# Altium schematic symbol library TI Power Management DC-DC Controller (External Switch).SchLib: 349 symbols (part 20 of 26)
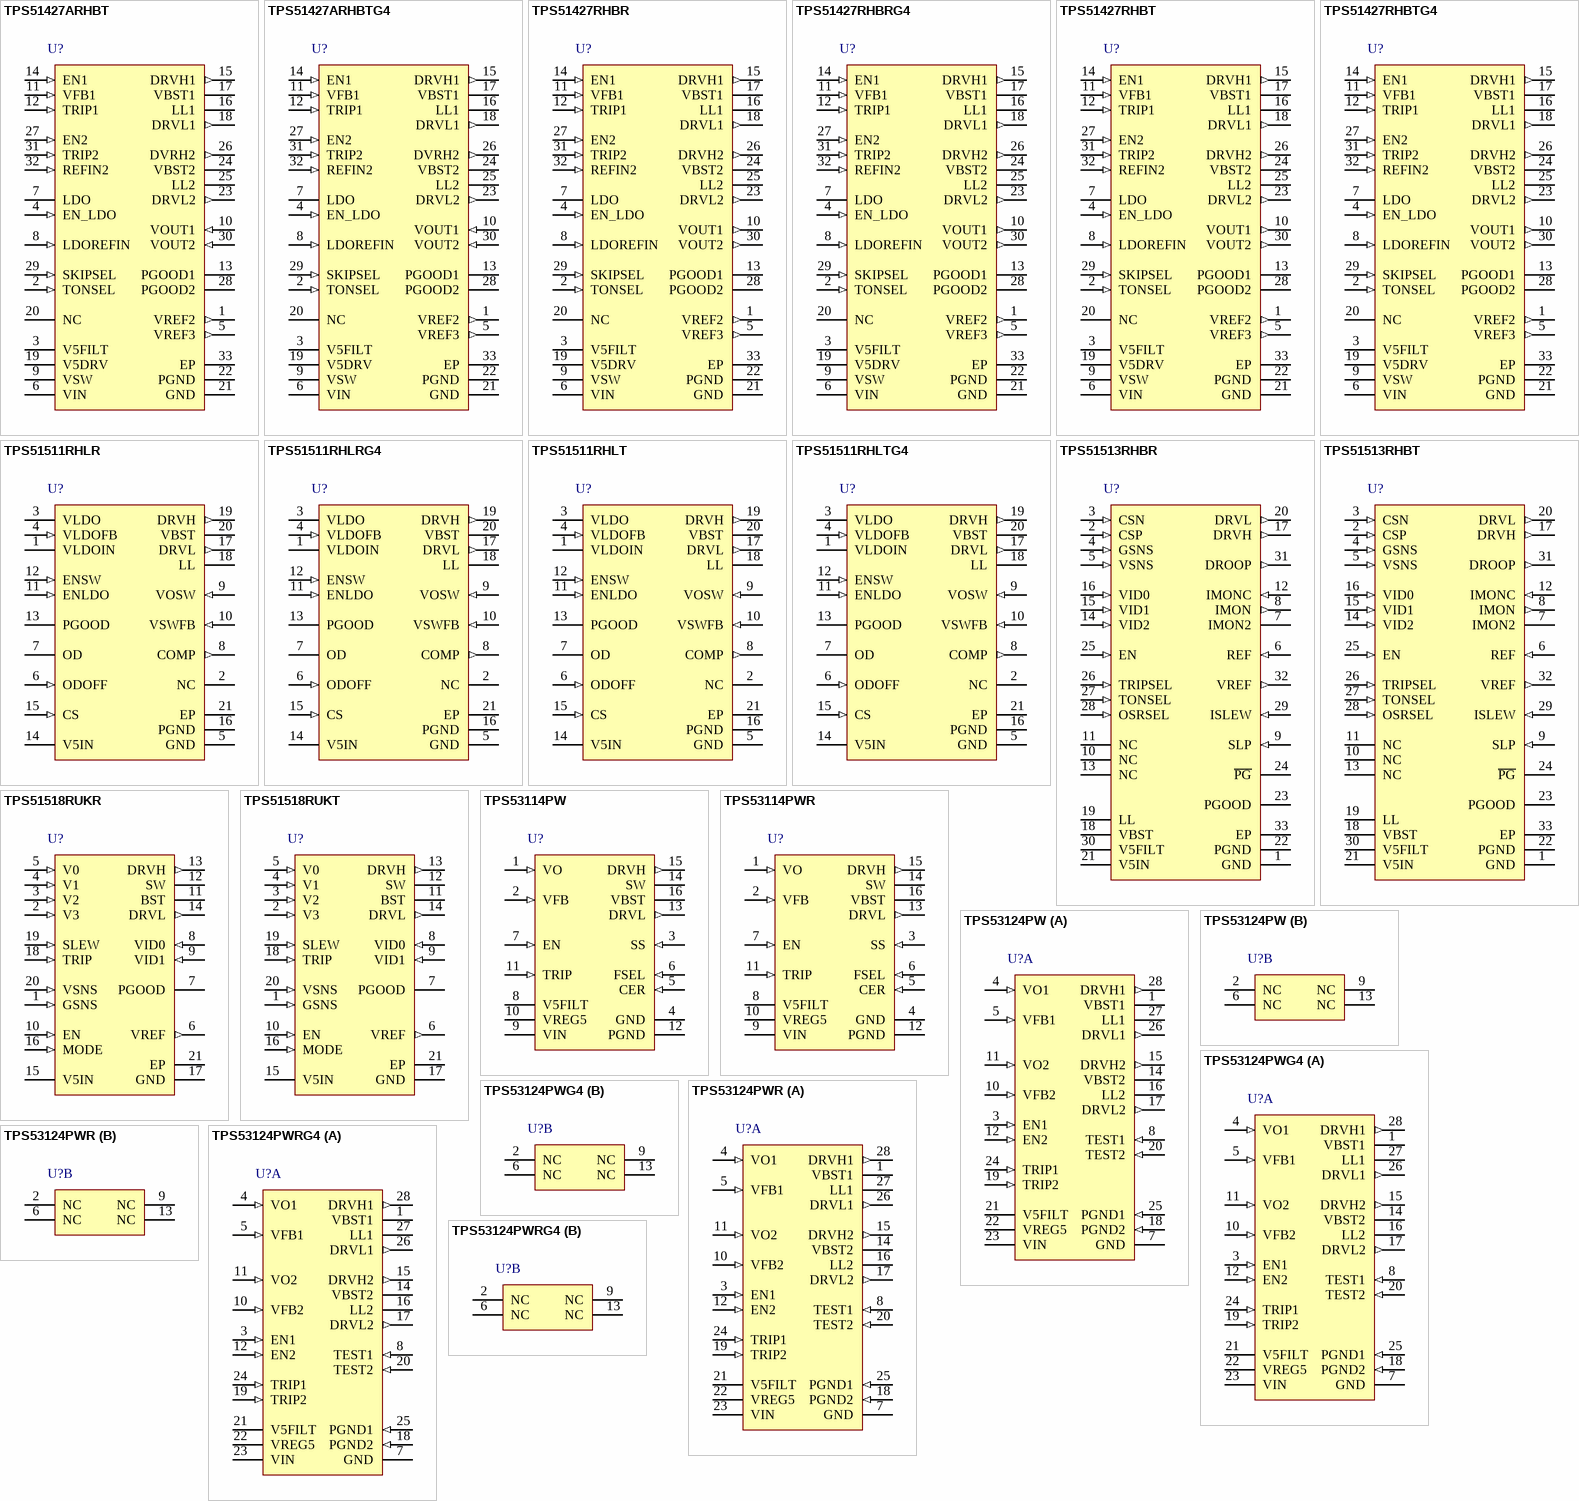
[diagram p33: symbols TPS51427ARHBT to TPS53124PWRG4]

## TPS51427ARHBT
designator U?
Dual D-CAP™Mode Synchronous Step Down Controller for Notebook Power with OOB Function Disabled, 90 % Duty Cycle, 5.5 to 28 V, -40 to 85 degC, 32-pin QFN (RHB), Green (RoHS & no Sb/Br); Manufacturer: Texas Instruments; PartNumber: TPS51427ARHBT; Duty Cycle(Max)(%): 90; Iout(Max)(A): 20; Regulated Outputs(#): 2; SubFamily: Multiple-Output Switching Controller; Switching Frequency(Max)(kHz): 500; Synchronous Rectification: TRUE; Topology: Buck, D-CAP Mode"; Vin(Max)(V): 28; Vin(Min)(V): 5.5; Vout(Max)(V): 5.9; Vout(Min)(V): 0.7; Vout2(Max)(V): 2.5; Vout2(Min)(V): 0.5; DatasheetVersion: SLUS843B; PackageVersion: revD, Jun-2011; PackageReference: RHB32-3450X3450TP; PackageDescription: 32-Pin Plastic Quad Flat No-Lead, 5 x 5 mm Body, 0.5 mm Pitch, 3.45 x 3.45 mm Exposed Pad; Supplier 1: Digi-Key; Supplier Part Number 1: 296-23590-2-ND; Eco-Plan: Green (RoHS & no Sb/Br); Iout2(A): 20; Mounting Technology: Surface Mount; Code_JEDEC: MO-220; ComponentLink1Description: Datasheet; ComponentLink1URL: http://www.ti.com/general/docs/lit/getliterature.tsp?genericPartNumber=TPS51427A&fileType=pdf; ComponentLink2Description: Package Specification; ComponentLink2URL: http://www.ti.com/litv/pdf/mpqf130c
footprint RHB32-3450X3450TP (QFN, 32-Leads, Body 5x5mm, Pitch 0.5mm, Thermal Pad 3.45x3.45mm, TI Recommended)
pins: 1 VREF2 (out) "2-V reference output. Bypass to GND with a 0.1-mF capacitor. VREF2 can source up to 50 mA for external loads.", 2 TONSEL (in) "Frequency select input. Connect to GND for 400-kHz/500-kHz operation. Connect to VREF2 (or leave open) for 400-kHz/300-kHz operation. Connect to V5FILT for 200-kHz/300-kHz operation (5-V/3.3-V SMPS switching frequencies, (See Datasheet)", 3 V5FILT (power) "5-V analog supply input", 4 EN_LDO (in) "LDO Enable Input. The LDO is enabled if EN_LDO is within logic high level and disabled if EN_LDO is less than the logic low level.", 5 VREF3 (out) "3.3-V reference output. VREF3 can source up to 10 mA for external loads. Bypass to GND with a 1-mF capacitor.", 6 VIN (power) "Power supply input .VIN supplies power to the linear regulators. The linear regulators are powered by Channel1 if VOUT1 is set greater than 5 V and VSW is tied to VOUT1.", 7 LDO (power) "Linear regulator output. The LDO regulator can provide a total of 100-mA external loads. The LDO regulates at 5 V If LDOREFIN is connected to GND. When the LDO is set at 5 V and VSW is within a 5-V switchover threshold, the (See Datasheet)", 8 LDOREFIN (in) "LDO Reference Input. Connect LDOREFIN to GND for fixed 5-V operation. Connect LDOREFIN to V5FILT for fixed 3.3-V operation. LDOREFIN can be used to program LDO output voltage from 0.7 V to 4.5 V. LDO output is twice the (See Datasheet)", 9 VSW (power) "VSW is the switchover source voltage for the LDO when LDOREFIN is connected to GND or V5FILT. Connect VSW to 5 V if LDOREFIN is tied GND.Connect VSW to 3.3 V if LDOREFIN is tied to V5FILT.", 10 VOUT1 (in) "Output connections to SMPS. These terminals serve two functions: on-time adjustment and output discharge.", 11 VFB1 (in) "Channel 1 feedback input.Connect VFB1 to GND for fixed 5-V operation.Connect VFB1 to V5FILT for fixed 1.5-V operation.Connect VFB1 to a resistive voltage divider from OUT1 to GND to adjust the output from 0.7 V to 5.9 V.", 12 TRIP1 (in) "Overcurrent trip point set input. Sourcing current is 5 mA at RT with 2900 ppm/degreesC temperature coefficient.", 13 PGOOD1 (hiz) "Channel1/Channel2 power-good open-drain output. PGOOD1/PGOOD2 is low when the Channel1/Channel2 output voltage is 10% less than the normal regulation point, at onset of OVP events, or during soft start. PGOOD1/PGOOD2 is high (See Datasheet)", 14 EN1 (in) "Channel enable pins. If EN1 is connected to VREF2, Channel1 starts after Channel2 reaches regulation (delay start). If EN2 is connected to VREF2, Channel2 starts after Chanel1 reaches regulation.", 15 DRVH1 (out) "High-side N-Channel FET driver ouputs.LL referenced floating drivers. The gate drive voltage is defined by the voltage across VBST to LLnode bootstrap capacitor.", 16 LL1 (power) "Phase node connections for high-side drivers. These connections also serve as inputs to current comparators for RDS(on) sensing and input voltage monitor for on-time control circuitry.", 17 VBST1 (power) "Supply input for high-side MOSFET driver (bootstrap terminal). Connect a capacitor from this pin to the respective LL terminals.", 18 DRVL1 (out) "Synchronous low-side MOSFET driver outputs. Ground referenced drivers. The gate drive voltage is defined by V5DRV voltage.", 19 V5DRV (power) "Supply voltage for the low-side MOSFET driver DRVL1/DRVL2. Connect a 5-V power source to the V5DRV pin (bypass with 4.7-uF MLCC capacitor to PGND if necessary.", 20 NC "No connection.", 21 GND (power) "Analog ground for both channels and LDO.", 22 PGND (power) "Ground pin for drivers and LS synchronous FET source terminals. This pin is also the input to zero crossing comparator and overcurrent comparator.", 23 DRVL2 (out) "Synchronous low-side MOSFET driver outputs. Ground referenced drivers. The gate drive voltage is defined by V5DRV voltage.", 24 VBST2 (power) "Supply input for high-side MOSFET driver (bootstrap terminal). Connect a capacitor from this pin to the respective LL terminals.", 25 LL2 (power) "Phase node connections for high-side drivers. These connections also serve as inputs to current comparators for RDS(on) sensing and input voltage monitor for on-time control circuitry.", 26 DVRH2 (out) "High-side N-Channel FET driver ouputs.LL referenced floating drivers. The gate drive voltage is defined by the voltage across VBST to LLnode bootstrap capacitor.", 27 EN2 (in) "Channel enable pins. If EN1 is connected to VREF2, Channel1 starts after Channel2 reaches regulation (delay start). If EN2 is connected to VREF2, Channel2 starts after Chanel1 reaches regulation.", 28 PGOOD2 (hiz) "Channel1/Channel2 power-good open-drain output. PGOOD1/PGOOD2 is low when the Channel1/Channel2 output voltage is 10% less than the normal regulation point, at onset of OVP events, or during soft start. PGOOD1/PGOOD2 is high (See Datasheet)", 29 SKIPSEL (in) "Low-noise mode control.Connect SKIPSEL to GND for Auto Skip mode operation or to V5FILT for PWM mode (fixed frequency).Connect to VREF2 or leave floating for OOA mode operation.", 30 VOUT2 (in) "Output connections to SMPS. These terminals serve two functions: on-time adjustment and output discharge.", 31 TRIP2 (in) "Overcurrent trip point set input. Sourcing current is 5 mA at RT with 2900 ppm/degreesC temperature coefficient.", 32 REFIN2 (in) "Output voltage control for Channel2.Connect REFIN2 to V5FILT for fixed 3.3-V operation.Connect REFIN2 to VREF3 for fixed 1.05-V operation.REFIN2 can be used to program Channel2 output voltage from 0.5 V to 2.5 V.", 33 EP (power) "Exposed thermal pad."

## TPS51427ARHBTG4
designator U?
Dual D-CAP™Mode Synchronous Step Down Controller for Notebook Power with OOB Function Disabled, 90 % Duty Cycle, 5.5 to 28 V, -40 to 85 degC, 32-pin QFN (RHB), Green (RoHS & no Sb/Br); Manufacturer: Texas Instruments; PartNumber: TPS51427ARHBTG4; Duty Cycle(Max)(%): 90; Iout(Max)(A): 20; Regulated Outputs(#): 2; SubFamily: Multiple-Output Switching Controller; Switching Frequency(Max)(kHz): 500; Synchronous Rectification: TRUE; Topology: Buck, D-CAP Mode"; Vin(Max)(V): 28; Vin(Min)(V): 5.5; Vout(Max)(V): 5.9; Vout(Min)(V): 0.7; Vout2(Max)(V): 2.5; Vout2(Min)(V): 0.5; DatasheetVersion: SLUS843B; PackageVersion: revD, Jun-2011; PackageReference: RHB32-3450X3450TP; PackageDescription: 32-Pin Plastic Quad Flat No-Lead, 5 x 5 mm Body, 0.5 mm Pitch, 3.45 x 3.45 mm Exposed Pad; Supplier 1: Digi-Key; Supplier Part Number 1: TPS51427ARHBTG4-ND; Eco-Plan: Green (RoHS & no Sb/Br); Iout2(A): 20; Mounting Technology: Surface Mount; Code_JEDEC: MO-220; ComponentLink1Description: Datasheet; ComponentLink1URL: http://www.ti.com/general/docs/lit/getliterature.tsp?genericPartNumber=TPS51427A&fileType=pdf; ComponentLink2Description: Package Specification; ComponentLink2URL: http://www.ti.com/litv/pdf/mpqf130c
footprint RHB32-3450X3450TP (QFN, 32-Leads, Body 5x5mm, Pitch 0.5mm, Thermal Pad 3.45x3.45mm, TI Recommended)
pins: 1 VREF2 (out) "2-V reference output. Bypass to GND with a 0.1-mF capacitor. VREF2 can source up to 50 mA for external loads.", 2 TONSEL (in) "Frequency select input. Connect to GND for 400-kHz/500-kHz operation. Connect to VREF2 (or leave open) for 400-kHz/300-kHz operation. Connect to V5FILT for 200-kHz/300-kHz operation (5-V/3.3-V SMPS switching frequencies, (See Datasheet)", 3 V5FILT (power) "5-V analog supply input", 4 EN_LDO (in) "LDO Enable Input. The LDO is enabled if EN_LDO is within logic high level and disabled if EN_LDO is less than the logic low level.", 5 VREF3 (out) "3.3-V reference output. VREF3 can source up to 10 mA for external loads. Bypass to GND with a 1-mF capacitor.", 6 VIN (power) "Power supply input .VIN supplies power to the linear regulators. The linear regulators are powered by Channel1 if VOUT1 is set greater than 5 V and VSW is tied to VOUT1.", 7 LDO (power) "Linear regulator output. The LDO regulator can provide a total of 100-mA external loads. The LDO regulates at 5 V If LDOREFIN is connected to GND. When the LDO is set at 5 V and VSW is within a 5-V switchover threshold, the (See Datasheet)", 8 LDOREFIN (in) "LDO Reference Input. Connect LDOREFIN to GND for fixed 5-V operation. Connect LDOREFIN to V5FILT for fixed 3.3-V operation. LDOREFIN can be used to program LDO output voltage from 0.7 V to 4.5 V. LDO output is twice the (See Datasheet)", 9 VSW (power) "VSW is the switchover source voltage for the LDO when LDOREFIN is connected to GND or V5FILT. Connect VSW to 5 V if LDOREFIN is tied GND.Connect VSW to 3.3 V if LDOREFIN is tied to V5FILT.", 10 VOUT1 (in) "Output connections to SMPS. These terminals serve two functions: on-time adjustment and output discharge.", 11 VFB1 (in) "Channel 1 feedback input.Connect VFB1 to GND for fixed 5-V operation.Connect VFB1 to V5FILT for fixed 1.5-V operation.Connect VFB1 to a resistive voltage divider from OUT1 to GND to adjust the output from 0.7 V to 5.9 V.", 12 TRIP1 (in) "Overcurrent trip point set input. Sourcing current is 5 mA at RT with 2900 ppm/degreesC temperature coefficient.", 13 PGOOD1 (hiz) "Channel1/Channel2 power-good open-drain output. PGOOD1/PGOOD2 is low when the Channel1/Channel2 output voltage is 10% less than the normal regulation point, at onset of OVP events, or during soft start. PGOOD1/PGOOD2 is high (See Datasheet)", 14 EN1 (in) "Channel enable pins. If EN1 is connected to VREF2, Channel1 starts after Channel2 reaches regulation (delay start). If EN2 is connected to VREF2, Channel2 starts after Chanel1 reaches regulation.", 15 DRVH1 (out) "High-side N-Channel FET driver ouputs.LL referenced floating drivers. The gate drive voltage is defined by the voltage across VBST to LLnode bootstrap capacitor.", 16 LL1 (power) "Phase node connections for high-side drivers. These connections also serve as inputs to current comparators for RDS(on) sensing and input voltage monitor for on-time control circuitry.", 17 VBST1 (power) "Supply input for high-side MOSFET driver (bootstrap terminal). Connect a capacitor from this pin to the respective LL terminals.", 18 DRVL1 (out) "Synchronous low-side MOSFET driver outputs. Ground referenced drivers. The gate drive voltage is defined by V5DRV voltage.", 19 V5DRV (power) "Supply voltage for the low-side MOSFET driver DRVL1/DRVL2. Connect a 5-V power source to the V5DRV pin (bypass with 4.7-uF MLCC capacitor to PGND if necessary.", 20 NC "No connection.", 21 GND (power) "Analog ground for both channels and LDO.", 22 PGND (power) "Ground pin for drivers and LS synchronous FET source terminals. This pin is also the input to zero crossing comparator and overcurrent comparator.", 23 DRVL2 (out) "Synchronous low-side MOSFET driver outputs. Ground referenced drivers. The gate drive voltage is defined by V5DRV voltage.", 24 VBST2 (power) "Supply input for high-side MOSFET driver (bootstrap terminal). Connect a capacitor from this pin to the respective LL terminals.", 25 LL2 (power) "Phase node connections for high-side drivers. These connections also serve as inputs to current comparators for RDS(on) sensing and input voltage monitor for on-time control circuitry.", 26 DVRH2 (out) "High-side N-Channel FET driver ouputs.LL referenced floating drivers. The gate drive voltage is defined by the voltage across VBST to LLnode bootstrap capacitor.", 27 EN2 (in) "Channel enable pins. If EN1 is connected to VREF2, Channel1 starts after Channel2 reaches regulation (delay start). If EN2 is connected to VREF2, Channel2 starts after Chanel1 reaches regulation.", 28 PGOOD2 (hiz) "Channel1/Channel2 power-good open-drain output. PGOOD1/PGOOD2 is low when the Channel1/Channel2 output voltage is 10% less than the normal regulation point, at onset of OVP events, or during soft start. PGOOD1/PGOOD2 is high (See Datasheet)", 29 SKIPSEL (in) "Low-noise mode control.Connect SKIPSEL to GND for Auto Skip mode operation or to V5FILT for PWM mode (fixed frequency).Connect to VREF2 or leave floating for OOA mode operation.", 30 VOUT2 (in) "Output connections to SMPS. These terminals serve two functions: on-time adjustment and output discharge.", 31 TRIP2 (in) "Overcurrent trip point set input. Sourcing current is 5 mA at RT with 2900 ppm/degreesC temperature coefficient.", 32 REFIN2 (in) "Output voltage control for Channel2.Connect REFIN2 to V5FILT for fixed 3.3-V operation.Connect REFIN2 to VREF3 for fixed 1.05-V operation.REFIN2 can be used to program Channel2 output voltage from 0.5 V to 2.5 V.", 33 EP (power) "Exposed thermal pad."

## TPS51427RHBR
designator U?
Dual D-CAP™Mode Synchronous Step Down Controller for Notebook Power Rails, 90 % Duty Cycle, 5.5 to 28 V, -40 to 85 degC, 32-pin QFN (RHB), Green (RoHS & no Sb/Br); Manufacturer: Texas Instruments; PartNumber: TPS51427RHBR; Duty Cycle(Max)(%): 90; Iout(Max)(A): 20; Regulated Outputs(#): 2; SubFamily: Multiple-Output Switching Controller; Switching Frequency(Max)(kHz): 500; Synchronous Rectification: TRUE; Topology: Buck, D-CAP Mode"; Vin(Max)(V): 28; Vin(Min)(V): 5.5; Vout(Max)(V): 5.9; Vout(Min)(V): 0.7; Vout2(Max)(V): 2.5; Vout2(Min)(V): 0.5; DatasheetVersion: SLUS819B; PackageVersion: revD, Jun-2011; PackageReference: RHB32-3450X3450TP; PackageDescription: 32-Pin Plastic Quad Flat No-Lead, 5 x 5 mm Body, 0.5 mm Pitch, 3.45 x 3.45 mm Exposed Pad; Supplier 1: Digi-Key; Supplier Part Number 1: TPS51427RHBR-ND; Eco-Plan: Green (RoHS & no Sb/Br); Iout2(A): 20; Mounting Technology: Surface Mount; Code_JEDEC: MO-220; ComponentLink1Description: Datasheet; ComponentLink1URL: http://www.ti.com/general/docs/lit/getliterature.tsp?genericPartNumber=TPS51427&fileType=pdf; ComponentLink2Description: Package Specification; ComponentLink2URL: http://www.ti.com/litv/pdf/mpqf130c
footprint RHB32-3450X3450TP (QFN, 32-Leads, Body 5x5mm, Pitch 0.5mm, Thermal Pad 3.45x3.45mm, TI Recommended)
pins: 1 VREF2 (out) "2-V reference output. Bypass to GND with a 0.1-µF capacitor. VREF2 can source up to 50 µA for external loads.", 2 TONSEL (in) "Frequency select input. Connect to GND for 400-kHz/500-kHz operation. Connect to VREF2 (or leave open) for  400-kHz/300-kHz operation. Connect to V5FILT for 200-kHz/300-kHz operation (5-V/3.3-V SMPS switching frequencies, (See Datasheet)", 3 V5FILT (power) "5-V analog supply input.", 4 EN_LDO (in) "LDO Enable Input. The LDO is enabled if EN_LDO is within logic high level and disabled if EN_LDO is less than the logic low  level.", 5 VREF3 (out) "3.3-V reference output. VREF3 can source up to 10 mA for external loads. Bypass to GND with a 1-µF capacitor.", 6 VIN (power) "Power supply input. VIN supplies power to the linear regulators. The linear regulators are powered by Channel1 if VOUT1 is set greater than 5 V and VSW is tied to VOUT1.", 7 LDO (power) "Linear regulator output. The LDO regulator can provide a total of 100-mA external loads. The LDO regulates at 5 V If LDOREFIN is connected to GND. When the LDO is set at 5 V and VSW is within a 5-V switchover threshold, the (See Datasheet)", 8 LDOREFIN (in) "LDO Reference Input. Connect LDOREFIN to GND for fixed 5-V operation. Connect LDOREFIN to V5FILT for fixed 3.3-V operation. LDOREFIN can be used to program LDO output voltage from 0.7 V to 4.5 V. LDO output is twice the (See Datasheet)", 9 VSW (power) "VSW is the switchover source voltage for the LDO when LDOREFIN is connected to GND or V5FILT. Connect VSW to 5 V if LDOREFIN is tied GND. Connect VSW to 3.3 V if LDOREFIN is tied to V5FILT.", 10 VOUT1 (out) "Output connections to SMPS. These terminals serve two functions: on-time adjustment and output discharge.", 11 VFB1 (in) "Channel1 feedback input. Connect VFB1 to GND for fixed 5-V operation. Connect VFB1 to V5FILT for fixed 1.5-V operation.Connect VFB1 to a resistive voltage divider from OUT1 to GND to adjust the output from 0.7 V to 5.9 V.", 12 TRIP1 (in) "Overcurrent trip point set input. Sourcing current is 5 µA at RT with 2900 ppm/degreesC temperature coefficient.", 13 PGOOD1 (hiz) "Channel1/Channel2 power-good open-drain output. PGOOD1/PGOOD2 is low when the Channel1/Channel2 output voltage is 10% less than the normal regulation point, at onset of OVP events, or during soft start. PGOOD1/PGOOD2 is high (See Datasheet)", 14 EN1 (in) "Channel enable pins. If EN1 is connected to VREF2, Channel1 starts after Channel2 reaches regulation (delay start). If EN2 is connected to VREF2, Channel2 starts after Chanel1 reaches regulation.", 15 DRVH1 (out) "High-side N-Channel FET driver outputs. LL referenced floating drivers. The gate drive voltage is defined by the voltage across VBST to LL node bootstrap capacitor.", 16 LL1 (power) "Phase node connections for high-side drivers. These connections also serve as inputs to current comparators for RDS(on) sensing and input voltage monitor for on-time control circuitry.", 17 VBST1 (power) "Supply input for high-side MOSFET driver (bootstrap terminal). Connect a capacitor from this pin to the respective LL terminals.", 18 DRVL1 (out) "Synchronous low-side MOSFET driver outputs. Ground referenced drivers. The gate drive voltage is defined by V5DRV voltage.", 19 V5DRV (power) "Supply voltage for the low-side MOSFET driver DRVL1/DRVL2. Connect a 5-V power source to the V5DRV pin (bypass with 4.7-µF MLCC capacitor to PGND if necessary).", 20 NC "No connection", 21 GND (power) "Analog ground for both channels and LDO.", 22 PGND (power) "Ground pin for drivers and LS synchronous FET source terminals. This pin is also the input to zero crossing comparator and overcurrent comparator.", 23 DRVL2 (out) "Synchronous low-side MOSFET driver outputs. Ground referenced drivers. The gate drive voltage is defined by V5DRV voltage.", 24 VBST2 (power) "Supply input for high-side MOSFET driver (bootstrap terminal). Connect a capacitor from this pin to the respective LL terminals.", 25 LL2 (power) "Phase node connections for high-side drivers. These connections also serve as inputs to current comparators for RDS(on) sensing and input voltage monitor for on-time control circuitry.", 26 DRVH2 (out) "High-side N-Channel FET driver outputs. LL referenced floating drivers. The gate drive voltage is defined by the voltage across VBST to LL node bootstrap capacitor.", 27 EN2 (in) "Channel enable pins. If EN1 is connected to VREF2, Channel1 starts after Channel2 reaches regulation (delay start). If EN2 is connected to VREF2, Channel2 starts after Chanel1 reaches regulation.", 28 PGOOD2 (hiz) "Channel1/Channel2 power-good open-drain output. PGOOD1/PGOOD2 is low when the Channel1/Channel2 output voltage is 10% less than the normal regulation point, at onset of OVP events, or during soft start. PGOOD1/PGOOD2 is high (See Datasheet)", 29 SKIPSEL (in) "Low-noise mode control. Connect SKIPSEL to GND for Auto Skip mode operation or to V5FILT for PWM mode (fixed frequency).Connect to VREF2 or leave floating for OOA mode operation.", 30 VOUT2 (out) "Output connections to SMPS. These terminals serve two functions: on-time adjustment and output discharge.", 31 TRIP2 (in) "Overcurrent trip point set input. Sourcing current is 5 µA at RT with 2900 ppm/degreesC temperature coefficient.", 32 REFIN2 (in) "Output voltage control for Channel2. Connect REFIN2 to V5FILT for fixed 3.3-V operation. Connect REFIN2 to VREF3 for fixed 1.05-V operation. REFIN2 can be used to program Channel2 output voltage from 0.5 V to 2.5 V.", 33 EP (power) "Exposed thermal pad."

## TPS51427RHBRG4
designator U?
Dual D-CAP™Mode Synchronous Step Down Controller for Notebook Power Rails, 90 % Duty Cycle, 5.5 to 28 V, -40 to 85 degC, 32-pin QFN (RHB), Green (RoHS & no Sb/Br); Manufacturer: Texas Instruments; PartNumber: TPS51427RHBRG4; Duty Cycle(Max)(%): 90; Iout(Max)(A): 20; Regulated Outputs(#): 2; SubFamily: Multiple-Output Switching Controller; Switching Frequency(Max)(kHz): 500; Synchronous Rectification: TRUE; Topology: Buck, D-CAP Mode"; Vin(Max)(V): 28; Vin(Min)(V): 5.5; Vout(Max)(V): 5.9; Vout(Min)(V): 0.7; Vout2(Max)(V): 2.5; Vout2(Min)(V): 0.5; DatasheetVersion: SLUS819B; PackageVersion: revD, Jun-2011; PackageReference: RHB32-3450X3450TP; PackageDescription: 32-Pin Plastic Quad Flat No-Lead, 5 x 5 mm Body, 0.5 mm Pitch, 3.45 x 3.45 mm Exposed Pad; Supplier 1: Digi-Key; Supplier Part Number 1: TPS51427RHBRG4-ND; Eco-Plan: Green (RoHS & no Sb/Br); Iout2(A): 20; Mounting Technology: Surface Mount; Code_JEDEC: MO-220; ComponentLink1Description: Datasheet; ComponentLink1URL: http://www.ti.com/general/docs/lit/getliterature.tsp?genericPartNumber=TPS51427&fileType=pdf; ComponentLink2Description: Package Specification; ComponentLink2URL: http://www.ti.com/litv/pdf/mpqf130c
footprint RHB32-3450X3450TP (QFN, 32-Leads, Body 5x5mm, Pitch 0.5mm, Thermal Pad 3.45x3.45mm, TI Recommended)
pins: 1 VREF2 (out) "2-V reference output. Bypass to GND with a 0.1-µF capacitor. VREF2 can source up to 50 µA for external loads.", 2 TONSEL (in) "Frequency select input. Connect to GND for 400-kHz/500-kHz operation. Connect to VREF2 (or leave open) for  400-kHz/300-kHz operation. Connect to V5FILT for 200-kHz/300-kHz operation (5-V/3.3-V SMPS switching frequencies, (See Datasheet)", 3 V5FILT (power) "5-V analog supply input.", 4 EN_LDO (in) "LDO Enable Input. The LDO is enabled if EN_LDO is within logic high level and disabled if EN_LDO is less than the logic low  level.", 5 VREF3 (out) "3.3-V reference output. VREF3 can source up to 10 mA for external loads. Bypass to GND with a 1-µF capacitor.", 6 VIN (power) "Power supply input. VIN supplies power to the linear regulators. The linear regulators are powered by Channel1 if VOUT1 is set greater than 5 V and VSW is tied to VOUT1.", 7 LDO (power) "Linear regulator output. The LDO regulator can provide a total of 100-mA external loads. The LDO regulates at 5 V If LDOREFIN is connected to GND. When the LDO is set at 5 V and VSW is within a 5-V switchover threshold, the (See Datasheet)", 8 LDOREFIN (in) "LDO Reference Input. Connect LDOREFIN to GND for fixed 5-V operation. Connect LDOREFIN to V5FILT for fixed 3.3-V operation. LDOREFIN can be used to program LDO output voltage from 0.7 V to 4.5 V. LDO output is twice the (See Datasheet)", 9 VSW (power) "VSW is the switchover source voltage for the LDO when LDOREFIN is connected to GND or V5FILT. Connect VSW to 5 V if LDOREFIN is tied GND. Connect VSW to 3.3 V if LDOREFIN is tied to V5FILT.", 10 VOUT1 (out) "Output connections to SMPS. These terminals serve two functions: on-time adjustment and output discharge.", 11 VFB1 (in) "Channel1 feedback input. Connect VFB1 to GND for fixed 5-V operation. Connect VFB1 to V5FILT for fixed 1.5-V operation.Connect VFB1 to a resistive voltage divider from OUT1 to GND to adjust the output from 0.7 V to 5.9 V.", 12 TRIP1 (in) "Overcurrent trip point set input. Sourcing current is 5 µA at RT with 2900 ppm/degreesC temperature coefficient.", 13 PGOOD1 (hiz) "Channel1/Channel2 power-good open-drain output. PGOOD1/PGOOD2 is low when the Channel1/Channel2 output voltage is 10% less than the normal regulation point, at onset of OVP events, or during soft start. PGOOD1/PGOOD2 is high (See Datasheet)", 14 EN1 (in) "Channel enable pins. If EN1 is connected to VREF2, Channel1 starts after Channel2 reaches regulation (delay start). If EN2 is connected to VREF2, Channel2 starts after Chanel1 reaches regulation.", 15 DRVH1 (out) "High-side N-Channel FET driver outputs. LL referenced floating drivers. The gate drive voltage is defined by the voltage across VBST to LL node bootstrap capacitor.", 16 LL1 (power) "Phase node connections for high-side drivers. These connections also serve as inputs to current comparators for RDS(on) sensing and input voltage monitor for on-time control circuitry.", 17 VBST1 (power) "Supply input for high-side MOSFET driver (bootstrap terminal). Connect a capacitor from this pin to the respective LL terminals.", 18 DRVL1 (out) "Synchronous low-side MOSFET driver outputs. Ground referenced drivers. The gate drive voltage is defined by V5DRV voltage.", 19 V5DRV (power) "Supply voltage for the low-side MOSFET driver DRVL1/DRVL2. Connect a 5-V power source to the V5DRV pin (bypass with 4.7-µF MLCC capacitor to PGND if necessary).", 20 NC "No connection", 21 GND (power) "Analog ground for both channels and LDO.", 22 PGND (power) "Ground pin for drivers and LS synchronous FET source terminals. This pin is also the input to zero crossing comparator and overcurrent comparator.", 23 DRVL2 (out) "Synchronous low-side MOSFET driver outputs. Ground referenced drivers. The gate drive voltage is defined by V5DRV voltage.", 24 VBST2 (power) "Supply input for high-side MOSFET driver (bootstrap terminal). Connect a capacitor from this pin to the respective LL terminals.", 25 LL2 (power) "Phase node connections for high-side drivers. These connections also serve as inputs to current comparators for RDS(on) sensing and input voltage monitor for on-time control circuitry.", 26 DRVH2 (out) "High-side N-Channel FET driver outputs. LL referenced floating drivers. The gate drive voltage is defined by the voltage across VBST to LL node bootstrap capacitor.", 27 EN2 (in) "Channel enable pins. If EN1 is connected to VREF2, Channel1 starts after Channel2 reaches regulation (delay start). If EN2 is connected to VREF2, Channel2 starts after Chanel1 reaches regulation.", 28 PGOOD2 (hiz) "Channel1/Channel2 power-good open-drain output. PGOOD1/PGOOD2 is low when the Channel1/Channel2 output voltage is 10% less than the normal regulation point, at onset of OVP events, or during soft start. PGOOD1/PGOOD2 is high (See Datasheet)", 29 SKIPSEL (in) "Low-noise mode control. Connect SKIPSEL to GND for Auto Skip mode operation or to V5FILT for PWM mode (fixed frequency).Connect to VREF2 or leave floating for OOA mode operation.", 30 VOUT2 (out) "Output connections to SMPS. These terminals serve two functions: on-time adjustment and output discharge.", 31 TRIP2 (in) "Overcurrent trip point set input. Sourcing current is 5 µA at RT with 2900 ppm/degreesC temperature coefficient.", 32 REFIN2 (in) "Output voltage control for Channel2. Connect REFIN2 to V5FILT for fixed 3.3-V operation. Connect REFIN2 to VREF3 for fixed 1.05-V operation. REFIN2 can be used to program Channel2 output voltage from 0.5 V to 2.5 V.", 33 EP (power) "Exposed thermal pad."

## TPS51427RHBT
designator U?
Dual D-CAP™Mode Synchronous Step Down Controller for Notebook Power Rails, 90 % Duty Cycle, 5.5 to 28 V, -40 to 85 degC, 32-pin QFN (RHB), Green (RoHS & no Sb/Br); Manufacturer: Texas Instruments; PartNumber: TPS51427RHBT; Duty Cycle(Max)(%): 90; Iout(Max)(A): 20; Regulated Outputs(#): 2; SubFamily: Multiple-Output Switching Controller; Switching Frequency(Max)(kHz): 500; Synchronous Rectification: TRUE; Topology: Buck, D-CAP Mode"; Vin(Max)(V): 28; Vin(Min)(V): 5.5; Vout(Max)(V): 5.9; Vout(Min)(V): 0.7; Vout2(Max)(V): 2.5; Vout2(Min)(V): 0.5; DatasheetVersion: SLUS819B; PackageVersion: revD, Jun-2011; PackageReference: RHB32-3450X3450TP; PackageDescription: 32-Pin Plastic Quad Flat No-Lead, 5 x 5 mm Body, 0.5 mm Pitch, 3.45 x 3.45 mm Exposed Pad; Supplier 1: Digi-Key; Supplier Part Number 1: 296-23406-2-ND; Eco-Plan: Green (RoHS & no Sb/Br); Iout2(A): 20; Mounting Technology: Surface Mount; Code_JEDEC: MO-220; ComponentLink1Description: Datasheet; ComponentLink1URL: http://www.ti.com/general/docs/lit/getliterature.tsp?genericPartNumber=TPS51427&fileType=pdf; ComponentLink2Description: Package Specification; ComponentLink2URL: http://www.ti.com/litv/pdf/mpqf130c
footprint RHB32-3450X3450TP (QFN, 32-Leads, Body 5x5mm, Pitch 0.5mm, Thermal Pad 3.45x3.45mm, TI Recommended)
pins: 1 VREF2 (out) "2-V reference output. Bypass to GND with a 0.1-µF capacitor. VREF2 can source up to 50 µA for external loads.", 2 TONSEL (in) "Frequency select input. Connect to GND for 400-kHz/500-kHz operation. Connect to VREF2 (or leave open) for  400-kHz/300-kHz operation. Connect to V5FILT for 200-kHz/300-kHz operation (5-V/3.3-V SMPS switching frequencies, (See Datasheet)", 3 V5FILT (power) "5-V analog supply input.", 4 EN_LDO (in) "LDO Enable Input. The LDO is enabled if EN_LDO is within logic high level and disabled if EN_LDO is less than the logic low  level.", 5 VREF3 (out) "3.3-V reference output. VREF3 can source up to 10 mA for external loads. Bypass to GND with a 1-µF capacitor.", 6 VIN (power) "Power supply input. VIN supplies power to the linear regulators. The linear regulators are powered by Channel1 if VOUT1 is set greater than 5 V and VSW is tied to VOUT1.", 7 LDO (power) "Linear regulator output. The LDO regulator can provide a total of 100-mA external loads. The LDO regulates at 5 V If LDOREFIN is connected to GND. When the LDO is set at 5 V and VSW is within a 5-V switchover threshold, the (See Datasheet)", 8 LDOREFIN (in) "LDO Reference Input. Connect LDOREFIN to GND for fixed 5-V operation. Connect LDOREFIN to V5FILT for fixed 3.3-V operation. LDOREFIN can be used to program LDO output voltage from 0.7 V to 4.5 V. LDO output is twice the (See Datasheet)", 9 VSW (power) "VSW is the switchover source voltage for the LDO when LDOREFIN is connected to GND or V5FILT. Connect VSW to 5 V if LDOREFIN is tied GND. Connect VSW to 3.3 V if LDOREFIN is tied to V5FILT.", 10 VOUT1 (out) "Output connections to SMPS. These terminals serve two functions: on-time adjustment and output discharge.", 11 VFB1 (in) "Channel1 feedback input. Connect VFB1 to GND for fixed 5-V operation. Connect VFB1 to V5FILT for fixed 1.5-V operation.Connect VFB1 to a resistive voltage divider from OUT1 to GND to adjust the output from 0.7 V to 5.9 V.", 12 TRIP1 (in) "Overcurrent trip point set input. Sourcing current is 5 µA at RT with 2900 ppm/degreesC temperature coefficient.", 13 PGOOD1 (hiz) "Channel1/Channel2 power-good open-drain output. PGOOD1/PGOOD2 is low when the Channel1/Channel2 output voltage is 10% less than the normal regulation point, at onset of OVP events, or during soft start. PGOOD1/PGOOD2 is high (See Datasheet)", 14 EN1 (in) "Channel enable pins. If EN1 is connected to VREF2, Channel1 starts after Channel2 reaches regulation (delay start). If EN2 is connected to VREF2, Channel2 starts after Chanel1 reaches regulation.", 15 DRVH1 (out) "High-side N-Channel FET driver outputs. LL referenced floating drivers. The gate drive voltage is defined by the voltage across VBST to LL node bootstrap capacitor.", 16 LL1 (power) "Phase node connections for high-side drivers. These connections also serve as inputs to current comparators for RDS(on) sensing and input voltage monitor for on-time control circuitry.", 17 VBST1 (power) "Supply input for high-side MOSFET driver (bootstrap terminal). Connect a capacitor from this pin to the respective LL terminals.", 18 DRVL1 (out) "Synchronous low-side MOSFET driver outputs. Ground referenced drivers. The gate drive voltage is defined by V5DRV voltage.", 19 V5DRV (power) "Supply voltage for the low-side MOSFET driver DRVL1/DRVL2. Connect a 5-V power source to the V5DRV pin (bypass with 4.7-µF MLCC capacitor to PGND if necessary).", 20 NC "No connection", 21 GND (power) "Analog ground for both channels and LDO.", 22 PGND (power) "Ground pin for drivers and LS synchronous FET source terminals. This pin is also the input to zero crossing comparator and overcurrent comparator.", 23 DRVL2 (out) "Synchronous low-side MOSFET driver outputs. Ground referenced drivers. The gate drive voltage is defined by V5DRV voltage.", 24 VBST2 (power) "Supply input for high-side MOSFET driver (bootstrap terminal). Connect a capacitor from this pin to the respective LL terminals.", 25 LL2 (power) "Phase node connections for high-side drivers. These connections also serve as inputs to current comparators for RDS(on) sensing and input voltage monitor for on-time control circuitry.", 26 DRVH2 (out) "High-side N-Channel FET driver outputs. LL referenced floating drivers. The gate drive voltage is defined by the voltage across VBST to LL node bootstrap capacitor.", 27 EN2 (in) "Channel enable pins. If EN1 is connected to VREF2, Channel1 starts after Channel2 reaches regulation (delay start). If EN2 is connected to VREF2, Channel2 starts after Chanel1 reaches regulation.", 28 PGOOD2 (hiz) "Channel1/Channel2 power-good open-drain output. PGOOD1/PGOOD2 is low when the Channel1/Channel2 output voltage is 10% less than the normal regulation point, at onset of OVP events, or during soft start. PGOOD1/PGOOD2 is high (See Datasheet)", 29 SKIPSEL (in) "Low-noise mode control. Connect SKIPSEL to GND for Auto Skip mode operation or to V5FILT for PWM mode (fixed frequency).Connect to VREF2 or leave floating for OOA mode operation.", 30 VOUT2 (out) "Output connections to SMPS. These terminals serve two functions: on-time adjustment and output discharge.", 31 TRIP2 (in) "Overcurrent trip point set input. Sourcing current is 5 µA at RT with 2900 ppm/degreesC temperature coefficient.", 32 REFIN2 (in) "Output voltage control for Channel2. Connect REFIN2 to V5FILT for fixed 3.3-V operation. Connect REFIN2 to VREF3 for fixed 1.05-V operation. REFIN2 can be used to program Channel2 output voltage from 0.5 V to 2.5 V.", 33 EP (power) "Exposed thermal pad."

## TPS51427RHBTG4
designator U?
Dual D-CAP™Mode Synchronous Step Down Controller for Notebook Power Rails, 90 % Duty Cycle, 5.5 to 28 V, -40 to 85 degC, 32-pin QFN (RHB), Green (RoHS & no Sb/Br); Manufacturer: Texas Instruments; PartNumber: TPS51427RHBTG4; Duty Cycle(Max)(%): 90; Iout(Max)(A): 20; Regulated Outputs(#): 2; SubFamily: Multiple-Output Switching Controller; Switching Frequency(Max)(kHz): 500; Synchronous Rectification: TRUE; Topology: Buck, D-CAP Mode"; Vin(Max)(V): 28; Vin(Min)(V): 5.5; Vout(Max)(V): 5.9; Vout(Min)(V): 0.7; Vout2(Max)(V): 2.5; Vout2(Min)(V): 0.5; DatasheetVersion: SLUS819B; PackageVersion: revD, Jun-2011; PackageReference: RHB32-3450X3450TP; PackageDescription: 32-Pin Plastic Quad Flat No-Lead, 5 x 5 mm Body, 0.5 mm Pitch, 3.45 x 3.45 mm Exposed Pad; Supplier 1: Digi-Key; Supplier Part Number 1: TPS51427RHBTG4-ND; Eco-Plan: Green (RoHS & no Sb/Br); Iout2(A): 20; Mounting Technology: Surface Mount; Code_JEDEC: MO-220; ComponentLink1Description: Datasheet; ComponentLink1URL: http://www.ti.com/general/docs/lit/getliterature.tsp?genericPartNumber=TPS51427&fileType=pdf; ComponentLink2Description: Package Specification; ComponentLink2URL: http://www.ti.com/litv/pdf/mpqf130c
footprint RHB32-3450X3450TP (QFN, 32-Leads, Body 5x5mm, Pitch 0.5mm, Thermal Pad 3.45x3.45mm, TI Recommended)
pins: 1 VREF2 (out) "2-V reference output. Bypass to GND with a 0.1-µF capacitor. VREF2 can source up to 50 µA for external loads.", 2 TONSEL (in) "Frequency select input. Connect to GND for 400-kHz/500-kHz operation. Connect to VREF2 (or leave open) for  400-kHz/300-kHz operation. Connect to V5FILT for 200-kHz/300-kHz operation (5-V/3.3-V SMPS switching frequencies, (See Datasheet)", 3 V5FILT (power) "5-V analog supply input.", 4 EN_LDO (in) "LDO Enable Input. The LDO is enabled if EN_LDO is within logic high level and disabled if EN_LDO is less than the logic low  level.", 5 VREF3 (out) "3.3-V reference output. VREF3 can source up to 10 mA for external loads. Bypass to GND with a 1-µF capacitor.", 6 VIN (power) "Power supply input. VIN supplies power to the linear regulators. The linear regulators are powered by Channel1 if VOUT1 is set greater than 5 V and VSW is tied to VOUT1.", 7 LDO (power) "Linear regulator output. The LDO regulator can provide a total of 100-mA external loads. The LDO regulates at 5 V If LDOREFIN is connected to GND. When the LDO is set at 5 V and VSW is within a 5-V switchover threshold, the (See Datasheet)", 8 LDOREFIN (in) "LDO Reference Input. Connect LDOREFIN to GND for fixed 5-V operation. Connect LDOREFIN to V5FILT for fixed 3.3-V operation. LDOREFIN can be used to program LDO output voltage from 0.7 V to 4.5 V. LDO output is twice the (See Datasheet)", 9 VSW (power) "VSW is the switchover source voltage for the LDO when LDOREFIN is connected to GND or V5FILT. Connect VSW to 5 V if LDOREFIN is tied GND. Connect VSW to 3.3 V if LDOREFIN is tied to V5FILT.", 10 VOUT1 (out) "Output connections to SMPS. These terminals serve two functions: on-time adjustment and output discharge.", 11 VFB1 (in) "Channel1 feedback input. Connect VFB1 to GND for fixed 5-V operation. Connect VFB1 to V5FILT for fixed 1.5-V operation.Connect VFB1 to a resistive voltage divider from OUT1 to GND to adjust the output from 0.7 V to 5.9 V.", 12 TRIP1 (in) "Overcurrent trip point set input. Sourcing current is 5 µA at RT with 2900 ppm/degreesC temperature coefficient.", 13 PGOOD1 (hiz) "Channel1/Channel2 power-good open-drain output. PGOOD1/PGOOD2 is low when the Channel1/Channel2 output voltage is 10% less than the normal regulation point, at onset of OVP events, or during soft start. PGOOD1/PGOOD2 is high (See Datasheet)", 14 EN1 (in) "Channel enable pins. If EN1 is connected to VREF2, Channel1 starts after Channel2 reaches regulation (delay start). If EN2 is connected to VREF2, Channel2 starts after Chanel1 reaches regulation.", 15 DRVH1 (out) "High-side N-Channel FET driver outputs. LL referenced floating drivers. The gate drive voltage is defined by the voltage across VBST to LL node bootstrap capacitor.", 16 LL1 (power) "Phase node connections for high-side drivers. These connections also serve as inputs to current comparators for RDS(on) sensing and input voltage monitor for on-time control circuitry.", 17 VBST1 (power) "Supply input for high-side MOSFET driver (bootstrap terminal). Connect a capacitor from this pin to the respective LL terminals.", 18 DRVL1 (out) "Synchronous low-side MOSFET driver outputs. Ground referenced drivers. The gate drive voltage is defined by V5DRV voltage.", 19 V5DRV (power) "Supply voltage for the low-side MOSFET driver DRVL1/DRVL2. Connect a 5-V power source to the V5DRV pin (bypass with 4.7-µF MLCC capacitor to PGND if necessary).", 20 NC "No connection", 21 GND (power) "Analog ground for both channels and LDO.", 22 PGND (power) "Ground pin for drivers and LS synchronous FET source terminals. This pin is also the input to zero crossing comparator and overcurrent comparator.", 23 DRVL2 (out) "Synchronous low-side MOSFET driver outputs. Ground referenced drivers. The gate drive voltage is defined by V5DRV voltage.", 24 VBST2 (power) "Supply input for high-side MOSFET driver (bootstrap terminal). Connect a capacitor from this pin to the respective LL terminals.", 25 LL2 (power) "Phase node connections for high-side drivers. These connections also serve as inputs to current comparators for RDS(on) sensing and input voltage monitor for on-time control circuitry.", 26 DRVH2 (out) "High-side N-Channel FET driver outputs. LL referenced floating drivers. The gate drive voltage is defined by the voltage across VBST to LL node bootstrap capacitor.", 27 EN2 (in) "Channel enable pins. If EN1 is connected to VREF2, Channel1 starts after Channel2 reaches regulation (delay start). If EN2 is connected to VREF2, Channel2 starts after Chanel1 reaches regulation.", 28 PGOOD2 (hiz) "Channel1/Channel2 power-good open-drain output. PGOOD1/PGOOD2 is low when the Channel1/Channel2 output voltage is 10% less than the normal regulation point, at onset of OVP events, or during soft start. PGOOD1/PGOOD2 is high (See Datasheet)", 29 SKIPSEL (in) "Low-noise mode control. Connect SKIPSEL to GND for Auto Skip mode operation or to V5FILT for PWM mode (fixed frequency).Connect to VREF2 or leave floating for OOA mode operation.", 30 VOUT2 (out) "Output connections to SMPS. These terminals serve two functions: on-time adjustment and output discharge.", 31 TRIP2 (in) "Overcurrent trip point set input. Sourcing current is 5 µA at RT with 2900 ppm/degreesC temperature coefficient.", 32 REFIN2 (in) "Output voltage control for Channel2. Connect REFIN2 to V5FILT for fixed 3.3-V operation. Connect REFIN2 to VREF3 for fixed 1.05-V operation. REFIN2 can be used to program Channel2 output voltage from 0.5 V to 2.5 V.", 33 EP (power) "Exposed thermal pad."

## TPS51511RHLR
designator U?
Synchronous Switcher Controller with 2 A LDO for GPU Power, 86 % Duty Cycle, 3 to 28 V, -40 to 85 degC, 20-pin QFN (RHL), Green (RoHS & no Sb/Br); Manufacturer: Texas Instruments; PartNumber: TPS51511RHLR; Duty Cycle(Max)(%): 86; Iout(Max)(A): 10; Regulated Outputs(#): 1; SubFamily: Multiple-Output Switching Controller; Switching Frequency(Max)(kHz): 350; Synchronous Rectification: TRUE; Topology: Buck, D-CAP Mode"; Vin(Max)(V): 28; Vin(Min)(V): 3; Vout(Max)(V): 3.3; Vout(Min)(V): 0.75; DatasheetVersion: SLVS735A; PackageVersion: revJ, Dec-2011; PackageReference: RHL20-3050X2050TP; PackageDescription: 20-Leads Plastic Quad Flatpack No-Lead, 4.5 x 3.5 x 0.9 mm Body, 0.5 mm Pitch, Exposed Pad; Supplier 1: Digi-Key; Supplier Part Number 1: TPS51511RHLR-ND; Eco-Plan: Green (RoHS & no Sb/Br); Mounting Technology: Surface Mount; ComponentLink1Description: Datasheet; ComponentLink1URL: http://www.ti.com/general/docs/lit/getliterature.tsp?genericPartNumber=TPS51511&fileType=pdf; ComponentLink2Description: Package Specification; ComponentLink2URL: http://www.ti.com/litv/pdf/mpqf155i
footprint RHL20-3050X2050TP (QFN, 20-Leads, Body 4.5x3.5mm, Pitch 0.5mm, Thermal Pad 3.05x2.05mm, TI Recommended)
pins: 1 VLDOIN (power) "Input terminal of the LDO.", 2 NC "Pin not used. No internal connection.", 3 VLDO (power) "Output terminal of the LDO. When LDO is turned off, the output capacitor is discharged by an internal FET.", 4 VLDOFB (in) "Feedback pin of the LDO. A voltage divider sets the LDO output voltage.", 5 GND (power) "Signal ground. Connect to negative terminal of the LDO output capacitor.", 6 ODOFF (in) "A comparator input. When this pin is tied to VLDOFB, OD acts as a PGOOD signal for the LDO. When connected to external logic, OD acts like a switch. See Table 1 for detailed information.", 7 OD (oc) "The output of the multifuntional open-drain switch.", 8 COMP (out) "Output of the transconductance amplifier for phase compensation in current mode. Connect to V5IN to disable Gm amplifier and enable D-CAP mode.", 9 VOSW (in) "Switcher output voltage monitor. Input for on-time one-shot timer and advanced PGOOD masking comparator.", 10 VSWFB (in) "Feedback pin of the switcher. A voltage divider connected to this pin sets the switcher output voltage. A resistor connected between this pin and OD pin can be inserted in parallel with the low-side resistor of the voltage (See Datasheet)", 11 ENLDO (in) "LDO-enable signal input.", 12 ENSW (in) "Switcher-enable signal input.", 13 PGOOD (oc) "Power-good signal open-drain output. Pulled low when VSWFB voltage falls outside the target window comparator. The upper side of the window comparator will be masked if the VOSW volttage is lower than 1.36 V (typ.). Refer to (See Datasheet)", 14 V5IN (power) "5V Power supply input. This 5 V supplies internal control circuitry, LDO pass FET gate drive, VDRVH and VDRVL gate drivers.", 15 CS (in) "Current-sense comparator input (-) for resistor current-sense mode. If connected to 5VIN through a voltage-setting resistor, constant current sinks through this pin to set the OCL point for the RDS(ON) current-sense mode.", 16 PGND (power) "Ground for bottom MOSFET gate driver. Also current-sense comparator input (+).", 17 DRVL (out) "Rectifying (bottom) MOSFET gate-drive output.", 18 LL (power) "Switching (top) MOSFET gate driver return. Current sense comparator input (-) for RDS(ON) current-sense mode.", 19 DRVH (out) "Switching (top) MOSFET gate drive output", 20 VBST (power) "Switching (top) MOSFET driver bootstrap voltage input. Internally connected to V5IN through an PN diode.", 21 EP (power) "Exposed Thermal Pad"

## TPS51511RHLRG4
designator U?
Synchronous Switcher Controller with 2 A LDO for GPU Power, 86 % Duty Cycle, 3 to 28 V, -40 to 85 degC, 20-pin QFN (RHL), Green (RoHS & no Sb/Br); Manufacturer: Texas Instruments; PartNumber: TPS51511RHLRG4; Duty Cycle(Max)(%): 86; Iout(Max)(A): 10; Regulated Outputs(#): 1; SubFamily: Multiple-Output Switching Controller; Switching Frequency(Max)(kHz): 350; Synchronous Rectification: TRUE; Topology: Buck, D-CAP Mode"; Vin(Max)(V): 28; Vin(Min)(V): 3; Vout(Max)(V): 3.3; Vout(Min)(V): 0.75; DatasheetVersion: SLVS735A; PackageVersion: revJ, Dec-2011; PackageReference: RHL20-3050X2050TP; PackageDescription: 20-Leads Plastic Quad Flatpack No-Lead, 4.5 x 3.5 x 0.9 mm Body, 0.5 mm Pitch, Exposed Pad; Supplier 1: Digi-Key; Supplier Part Number 1: TPS51511RHLRG4-ND; Eco-Plan: Green (RoHS & no Sb/Br); Mounting Technology: Surface Mount; ComponentLink1Description: Datasheet; ComponentLink1URL: http://www.ti.com/general/docs/lit/getliterature.tsp?genericPartNumber=TPS51511&fileType=pdf; ComponentLink2Description: Package Specification; ComponentLink2URL: http://www.ti.com/litv/pdf/mpqf155i
footprint RHL20-3050X2050TP (QFN, 20-Leads, Body 4.5x3.5mm, Pitch 0.5mm, Thermal Pad 3.05x2.05mm, TI Recommended)
pins: 1 VLDOIN (power) "Input terminal of the LDO.", 2 NC "Pin not used. No internal connection.", 3 VLDO (power) "Output terminal of the LDO. When LDO is turned off, the output capacitor is discharged by an internal FET.", 4 VLDOFB (in) "Feedback pin of the LDO. A voltage divider sets the LDO output voltage.", 5 GND (power) "Signal ground. Connect to negative terminal of the LDO output capacitor.", 6 ODOFF (in) "A comparator input. When this pin is tied to VLDOFB, OD acts as a PGOOD signal for the LDO. When connected to external logic, OD acts like a switch. See Table 1 for detailed information.", 7 OD (oc) "The output of the multifuntional open-drain switch.", 8 COMP (out) "Output of the transconductance amplifier for phase compensation in current mode. Connect to V5IN to disable Gm amplifier and enable D-CAP mode.", 9 VOSW (in) "Switcher output voltage monitor. Input for on-time one-shot timer and advanced PGOOD masking comparator.", 10 VSWFB (in) "Feedback pin of the switcher. A voltage divider connected to this pin sets the switcher output voltage. A resistor connected between this pin and OD pin can be inserted in parallel with the low-side resistor of the voltage (See Datasheet)", 11 ENLDO (in) "LDO-enable signal input.", 12 ENSW (in) "Switcher-enable signal input.", 13 PGOOD (oc) "Power-good signal open-drain output. Pulled low when VSWFB voltage falls outside the target window comparator. The upper side of the window comparator will be masked if the VOSW volttage is lower than 1.36 V (typ.). Refer to (See Datasheet)", 14 V5IN (power) "5V Power supply input. This 5 V supplies internal control circuitry, LDO pass FET gate drive, VDRVH and VDRVL gate drivers.", 15 CS (in) "Current-sense comparator input (-) for resistor current-sense mode. If connected to 5VIN through a voltage-setting resistor, constant current sinks through this pin to set the OCL point for the RDS(ON) current-sense mode.", 16 PGND (power) "Ground for bottom MOSFET gate driver. Also current-sense comparator input (+).", 17 DRVL (out) "Rectifying (bottom) MOSFET gate-drive output.", 18 LL (power) "Switching (top) MOSFET gate driver return. Current sense comparator input (-) for RDS(ON) current-sense mode.", 19 DRVH (out) "Switching (top) MOSFET gate drive output", 20 VBST (power) "Switching (top) MOSFET driver bootstrap voltage input. Internally connected to V5IN through an PN diode.", 21 EP (power) "Exposed Thermal Pad"